# EAGLE library part MC14538BDWG (library ON Semiconductor_By_element14_Batch_1)
Dual Precision Retriggerable/Resettable Monostable Multivibrator
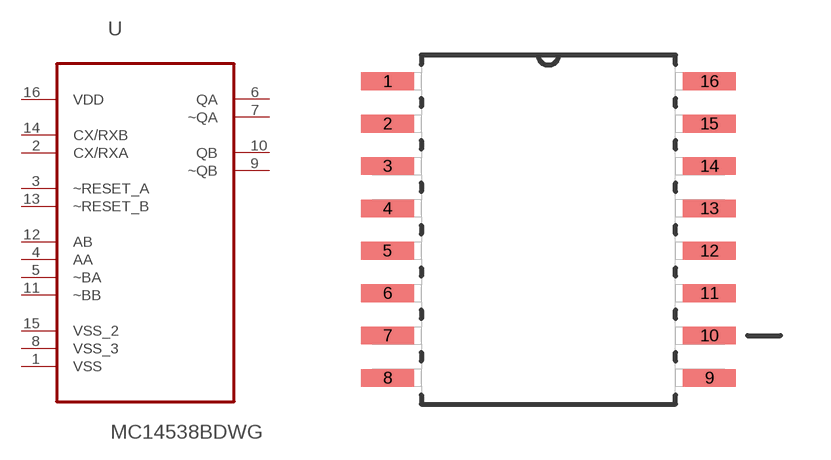
[diagram p293: symbol with the pads of SOIC127P1030X265-16N; footprint SOIC127P1030X265-16N]

Designator prefix U

## MC14538BDWG (MPN: MC14538BDWG; OC_FARNELL: 9664920; OC_NEWARK: 26K3968; P1I: o; PACKAGE: SOIC-16; SUPPLIER: ON SEMICONDUCTOR)  [SOIC127P1030X265-16N]
1  VSS  pas
2  CX/RXA  in
3  ~RESET_A  in
4  AA  in
5  ~BA  in
6  QA  out
7  ~QA  out
8  VSS_3  pas
9  ~QB  out
10  QB  out
11  ~BB  in
12  AB  in
13  ~RESET_B  in
14  CX/RXB  in
15  VSS_2  pas
16  VDD  pwr

## Footprint SOIC127P1030X265-16N (pad centres in mm)
smd 1.6 x 0.533: 1 -4.826,4.445; 2 -4.826,3.175; 3 -4.826,1.905; 4 -4.826,0.635; 5 -4.826,-0.635; 6 -4.826,-1.905; 7 -4.826,-3.175; 8 -4.826,-4.445; 9 4.826,-4.445; 10 4.826,-3.175; 11 4.826,-1.905; 12 4.826,-0.635; 13 4.826,0.635; 14 4.826,1.905; 15 4.826,3.175; 16 4.826,4.445